# Altium schematic symbol library TS-101-T-A.SchLib: 2 symbols
Pins are listed as number, name and electrical type; pins without a type are passive.

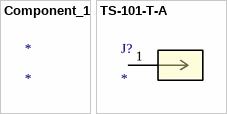
[diagram p0: symbols Component_1 to TS-101-T-A]

## Component_1
designator *

## TS-101-T-A
designator J?
No Description Available; Mfr_Name: Samtec Inc; RefDes: RefDes; Type: Type
footprint CON1_1X1_TU_HTS_SAI
pins: 1